# Altium footprint library GCT_USB4070-30-C_REVC5.PcbLib: 2 footprints
Each footprint in its own frame and in the unit in brackets; x right, y up, seen from the top. Pads: shape width x height; smd on the part's side, far side on the other; paste and mask are expansions set on the pad; w line width, h text height; cw(c..) or ccw(c..) is an arc to the next point about the centre after c.
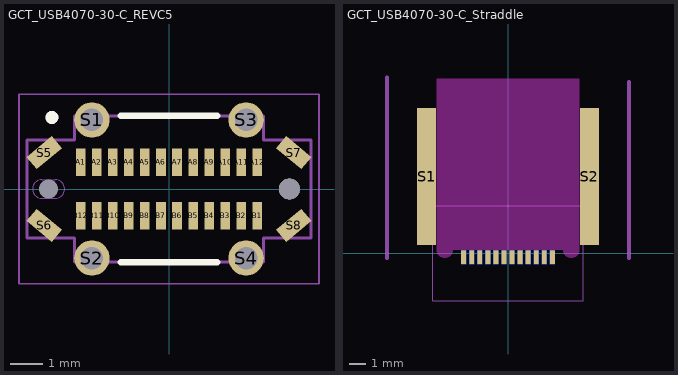
[diagram p0: the footprints below, top view; thin cyan lines are the x and y axes]

## GCT_USB4070-30-C_REVC5 [mm]
height 10.8
pads (34):
  rect 0.3x0.85 smd: A1(-2.75,0.83) A2(-2.25,0.83) A3(-1.75,0.83) A4(-1.25,0.83) A5(-0.75,0.83) A6(-0.25,0.83) A7(0.25,0.83) A8(0.75,0.83) A9(1.25,0.83) A10(1.75,0.83) A11(2.25,0.83) A12(2.75,0.83) B1(2.75,-0.83) B2(2.25,-0.83) B3(1.75,-0.83) B4(1.25,-0.83) B5(0.75,-0.83) B6(0.25,-0.83) B7(-0.25,-0.83) B8(-0.75,-0.83) B9(-1.25,-0.83) B10(-1.75,-0.83) B11(-2.25,-0.83) B12(-2.75,-0.83)
  round 1.1 hole 0.7: S1(-2.4,2.15) S2(-2.4,-2.15) S3(2.4,2.15) S4(2.4,-2.15)
  rect 1.03x0.5 smd rot 40: S5(-3.88,1.135) S8(3.88,-1.135)
  rect 1.03x0.5 smd rot 140: S6(-3.88,-1.135) S7(3.88,1.135)
  round 0.58 hole 0.58 unplated: ""(-3.75,0)
  round 0.66 hole 0.66 unplated: ""(3.75,0)
Top Overlay:
  circle w0.2: c-3.646,2.227 r0.1
  lines w0.2: -1.5,-2.275 1.5,-2.275 ; -1.5,2.275 1.5,2.275
Mechanical 1:
  lines w0: -3.96,-0.29 cw(c-3.96,0) -3.96,0.29 ; -3.96,-0.29 cw(c-3.96,0) -3.96,0.29 ; -3.96,-0.29 -3.54,-0.29 ; -3.96,0.29 -3.54,0.29 ; -3.54,-0.29 ccw(c-3.54,0) -3.54,0.29 ; -3.54,-0.29 ccw(c-3.54,0) -3.54,0.29
Mechanical 13:
  circle w0.2: c-3.646,2.227 r0.1
  lines w0.1: -4.42,-1.53 -2.94,-1.53 -2.94,-2.275 2.94,-2.275 2.94,-1.53 4.42,-1.53 4.42,1.53 2.94,1.53 2.94,2.275 -2.94,2.275 -2.94,1.53 -4.42,1.53 -4.42,-1.53
Mechanical 15:
  lines w0.05: -4.67,-2.95 -4.67,2.95 4.67,2.95 4.67,-2.95 -4.67,-2.95
3D body "step_temp.STEP": height 10.8, standoff -1.3, extent -4.42,-2.275 4.42,2.275

## GCT_USB4070-30-C_Straddle [mm]
height 10.8
pads (26):
  rect 0.3x0.85 smd far side paste-10: A1(-2.75,-0.25) A2(-2.25,-0.25) A3(-1.75,-0.25) A4(-1.25,-0.25) A5(-0.75,-0.25) A6(-0.25,-0.25) A7(0.25,-0.25) A8(0.75,-0.25) A9(1.25,-0.25) A10(1.75,-0.25) A11(2.25,-0.25) A12(2.75,-0.25)
  rect 0.3x0.85 smd paste-10: B1(2.75,-0.25) B2(2.25,-0.25) B3(1.75,-0.25) B4(1.25,-0.25) B5(0.75,-0.25) B6(0.25,-0.25) B7(-0.25,-0.25) B8(-0.75,-0.25) B9(-1.25,-0.25) B10(-1.75,-0.25) B11(-2.25,-0.25) B12(-2.75,-0.25)
  rect 1.2x8.5 / inner rect 0x0 / far side rect 1.2x8.5 all layers, no hole paste-10: S1(-5.05,4.75) S2(5.05,4.75)
Keep-Out Layer:
  board cut-out: -4.425,0.2 -4.425,0.101 -4.349,-0.083 -4.208,-0.224 -4.024,-0.3 -3.826,-0.3 -3.642,-0.224 -3.501,-0.083 -3.425,0.101 -3.425,0.2 3.425,0.2 3.425,0.101 3.501,-0.083 3.642,-0.224 3.826,-0.3 4.024,-0.3 4.208,-0.224 4.349,-0.083 4.425,0.101 4.425,0.2 4.425,10.8 -4.425,10.8
Mechanical 1:
  lines w0.254: -7.5,-0.3 -7.5,10.9 ; 7.5,-0.3 7.5,10.6
Mechanical 15:
  lines w0.05: -4.67,-2.95 -4.67,2.95 4.67,2.95 4.67,-2.95 -4.67,-2.95
3D body "step_temp.STEP": height 1.48, standoff -3.08, extent -4.42,-1.3 4.42,10.8